# Altium footprint library lib_toshiba.PcbLib: 3 footprints
Each footprint in its own frame and in the unit in brackets; x right, y up, seen from the top. Pads: shape width x height; smd on the part's side, far side on the other; paste and mask are expansions set on the pad; w line width, h text height; cw(c..) or ccw(c..) is an arc to the next point about the centre after c.
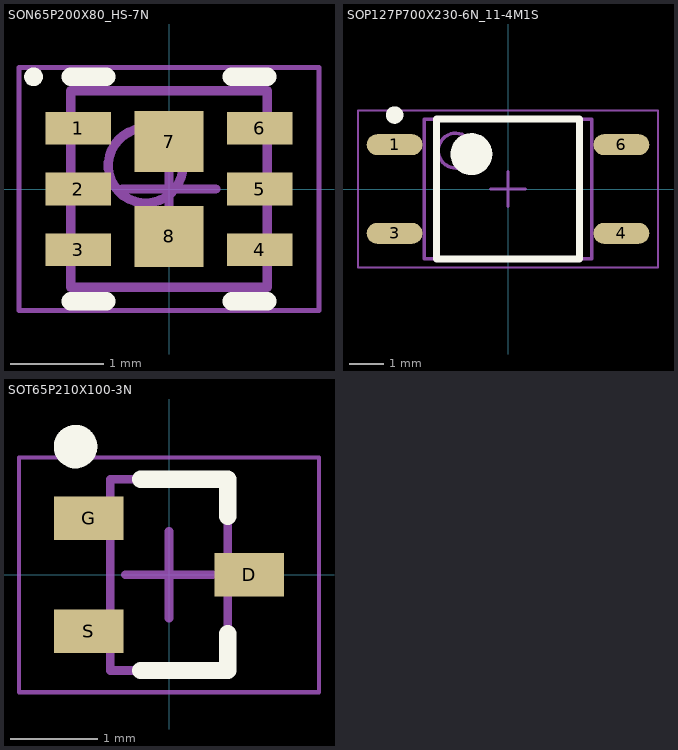
[diagram p0: the footprints below, top view; thin cyan lines are the x and y axes]

## SON65P200X80_HS-7N [mm] "SON, 6-Leads, Body 2,00x2,00mm, Pitch 0,65mm, Thermal Pad 0,65x0,74mm, IPC Medium Density"
height 0.8
pads (8):
  rect 0.7x0.35 smd: 1(-0.97,0.65) 2(-0.97,0) 3(-0.97,-0.65) 4(0.97,-0.65) 5(0.97,0) 6(0.97,0.65)
  rect 0.74x0.65 smd: 7(0,0.508) 8(0,-0.508)
Top Overlay:
  circle w0.1: c-1.45,1.2 r0.05
  lines w0.2: -1.05,-1.2 -0.67,-1.2 ; -1.05,1.2 -0.67,1.2 ; 0.67,-1.2 1.05,-1.2 ; 0.67,1.2 1.05,1.2
Mechanical 13:
  circle w0.1: c-0.25,0.25 r0.4
  lines w0.1: -1.05,-1.05 1.05,-1.05 1.05,1.05 -1.05,1.05 -1.05,-1.05
Mechanical 15:
  lines w0.05: -1.605,-1.3 1.605,-1.3 1.605,1.3 -1.605,1.3 -1.605,-1.3
  lines w0.1: -0.5,0 0.5,0 ; 0,-0.5 0,0.5
3D body "SON65P200X80_HS-7N.step": height 0.8, standoff 0, extent -1.051,-1.05 1.051,1.05

## SOP127P700X230-6N_11-4M1S [mm] "SOP, 6-Leads, Body 3.75x4.60mm, Pitch 1.27mm, IPC Medium Density"
height 2.3
pads (4):
  oval 1.6x0.6 smd: 1(-3.25,1.27) 3(-3.25,-1.27) 4(3.25,-1.27) 6(3.25,1.27)
Top Overlay:
  circle w0.25: c-3.25,2.12 r0.125
  circle w0.6: c-1.05,1 r0.3
  lines w0.2: -2.05,-2 -2.05,2 2.05,2 2.05,-2 -2.05,-2
Mechanical 13:
  circle w0.1: c-1.5,1.1 r0.5
  lines w0.1: -2.4,-2 -2.4,2 2.4,2 2.4,-2 -2.4,-2
Mechanical 15:
  lines w0.05: -4.3,-2.25 -4.3,2.25 4.3,2.25 4.3,-2.25 -4.3,-2.25
  lines w0.1: -0.5,0 0.5,0 ; 0,-0.5 0,0.5
3D body "4pin SO6.STEP": height 2.2, standoff 0, extent -3.5,-1.85 3.5,1.85

## SOT65P210X100-3N [mm] "SOT23, 3-Leads, Body 2,00x2,10mm, Pitch 0,65mm, IPC Medium Density"
height 1
pads (3):
  rect 0.8x0.5 smd: D(0.925,0) G(-0.925,0.65) S(-0.925,-0.65)
Top Overlay:
  circle w0.25: c-1.075,1.475 r0.125
  lines w0.2: -0.325,-1.1 0.675,-1.1 0.675,-0.675 ; -0.325,1.1 0.675,1.1 0.675,0.675
Mechanical 13:
  lines w0.1: -0.675,-1.1 -0.675,1.1 0.675,1.1 0.675,-1.1 -0.675,-1.1
Mechanical 15:
  lines w0.05: -1.725,-1.35 -1.725,1.35 1.725,1.35 1.725,-1.35 -1.725,-1.35
  lines w0.1: -0.5,0 0.5,0 ; 0,-0.5 0,0.5
3D body "SOT65P210X100-3N.step": height 1, standoff 0, extent -1.15,-1.1 1.15,1.1